# EAGLE library part MC1321X (library Railstars)
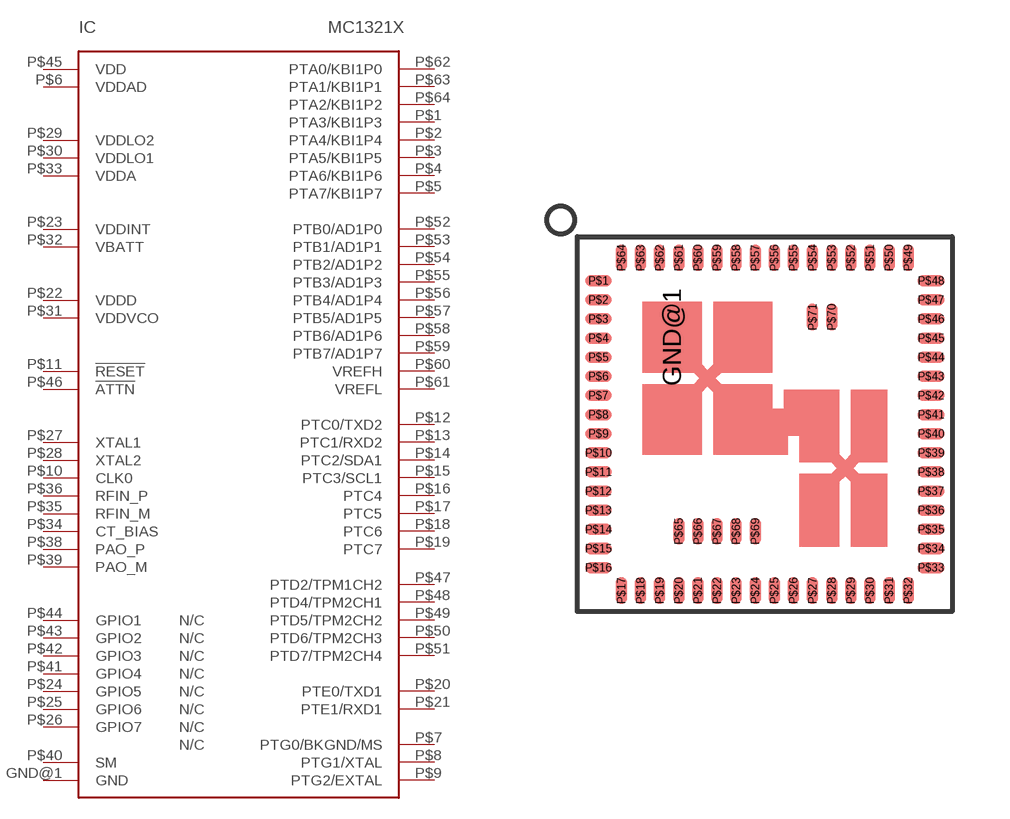
[diagram p6: symbol with the pads of LGA71; footprint LGA71]

Designator prefix IC

## MC1321X  [LGA71]
GND@1  GND  pwr
P$1  PTA3/KBI1P3
P$2  PTA4/KBI1P4
P$3  PTA5/KBI1P5
P$4  PTA6/KBI1P6
P$5  PTA7/KBI1P7
P$6  VDDAD
P$7  PTG0/BKGND/MS
P$8  PTG1/XTAL
P$9  PTG2/EXTAL
P$10  CLK0
P$11  !RESET
P$12  PTC0/TXD2
P$13  PTC1/RXD2
P$14  PTC2/SDA1
P$15  PTC3/SCL1
P$16  PTC4
P$17  PTC5
P$18  PTC6
P$19  PTC7
P$20  PTE0/TXD1
P$21  PTE1/RXD1
P$22  VDDD
P$23  VDDINT
P$24  GPIO5
P$25  GPIO6
P$26  GPIO7
P$27  XTAL1
P$28  XTAL2
P$29  VDDLO2
P$30  VDDLO1
P$31  VDDVCO
P$32  VBATT
P$33  VDDA
P$34  CT_BIAS
P$35  RFIN_M
P$36  RFIN_P
P$37  N/C  nc
P$38  PAO_P
P$39  PAO_M
P$40  SM
P$41  GPIO4
P$42  GPIO3
P$43  GPIO2
P$44  GPIO1
P$45  VDD
P$46  !ATTN
P$47  PTD2/TPM1CH2
P$48  PTD4/TPM2CH1
P$49  PTD5/TPM2CH2
P$50  PTD6/TPM2CH3
P$51  PTD7/TPM2CH4
P$52  PTB0/AD1P0
P$53  PTB1/AD1P1
P$54  PTB2/AD1P2
P$55  PTB3/AD1P3
P$56  PTB4/AD1P4
P$57  PTB5/AD1P5
P$58  PTB6/AD1P6
P$59  PTB7/AD1P7
P$60  VREFH
P$61  VREFL
P$62  PTA0/KBI1P0
P$63  PTA1/KBI1P1
P$64  PTA2/KBI1P2
P$65  N/C  nc
P$66  N/C  nc
P$67  N/C  nc
P$68  N/C  nc
P$69  N/C  nc
P$70  N/C  nc
P$71  N/C  nc

## Footprint LGA71 (pad centres in mm)
smd 1.5 x 1.8: GND@1 -2.425,2.275
smd 0.7 x 0.3: P$1 -4.35,3.75; P$2 -4.35,3.25; P$3 -4.35,2.75; P$4 -4.35,2.25; P$5 -4.35,1.75; P$6 -4.35,1.25; P$7 -4.35,0.75; P$8 -4.35,0.25; P$9 -4.35,-0.25; P$10 -4.35,-0.75; P$11 -4.35,-1.25; P$12 -4.35,-1.75; P$13 -4.35,-2.25; P$14 -4.35,-2.75; P$15 -4.35,-3.25; P$16 -4.35,-3.75; P$33 4.35,-3.75; P$34 4.35,-3.25; P$35 4.35,-2.75; P$36 4.35,-2.25; P$37 4.35,-1.75; P$38 4.35,-1.25; P$39 4.35,-0.75; P$40 4.35,-0.25; P$41 4.35,0.25; P$42 4.35,0.75; P$43 4.35,1.25; P$44 4.35,1.75; P$45 4.35,2.25; P$46 4.35,2.75; P$47 4.35,3.25; P$48 4.35,3.75
smd 0.3 x 0.7: P$17 -3.75,-4.35; P$18 -3.25,-4.35; P$19 -2.75,-4.35; P$20 -2.25,-4.35; P$21 -1.75,-4.35; P$22 -1.25,-4.35; P$23 -0.75,-4.35; P$24 -0.25,-4.35; P$25 0.25,-4.35; P$26 0.75,-4.35; P$27 1.25,-4.35; P$28 1.75,-4.35; P$29 2.25,-4.35; P$30 2.75,-4.35; P$31 3.25,-4.35; P$32 3.75,-4.35; P$49 3.75,4.35; P$50 3.25,4.35; P$51 2.75,4.35; P$52 2.25,4.35; P$53 1.75,4.35; P$54 1.25,4.35; P$55 0.75,4.35; P$56 0.25,4.35; P$57 -0.25,4.35; P$58 -0.75,4.35; P$59 -1.25,4.35; P$60 -1.75,4.35; P$61 -2.25,4.35; P$62 -2.75,4.35; P$63 -3.25,4.35; P$64 -3.75,4.35; P$65 -2.25,-2.8; P$66 -1.75,-2.8; P$67 -1.25,-2.8; P$68 -0.75,-2.8; P$69 -0.25,-2.8; P$70 1.75,2.8; P$71 1.25,2.8